# EAGLE library part LT3652 (library chips_old)
Solar power tracking 2A battery charger
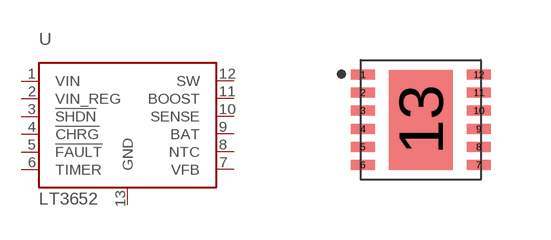
[diagram p69: symbol with the pads of DFN-12/3MM; footprint DFN-12/3MM]

Designator prefix U

## LT3652 (DIGIKEY: LT3652EDD#PBF-ND)  [DFN-12/3MM]
1  VIN
2  VIN_REG
3  !SHDN
4  !CHRG
5  !FAULT
6  TIMER
7  VFB
8  NTC
9  BAT
10  SENSE
11  BOOST
12  SW
13  GND

## Footprint DFN-12/3MM (pad centres in mm)
DFN-12/3MM for FTDI234XD
smd 0.6 x 0.25: 1 -1.45,1.13; 2 -1.45,0.68; 3 -1.45,0.23; 4 -1.45,-0.23; 5 -1.45,-0.68; 6 -1.45,-1.13; 7 1.45,-1.13; 8 1.45,-0.68; 9 1.45,-0.23; 10 1.45,0.23; 11 1.45,0.68; 12 1.45,1.13
smd 1.6 x 2.5: 13 0,0